# EAGLE library part NRF24L01 (library nrf24l01)
nRF24L01 Single chip 2.4GHz transceiver from Nordic Semiconductors.
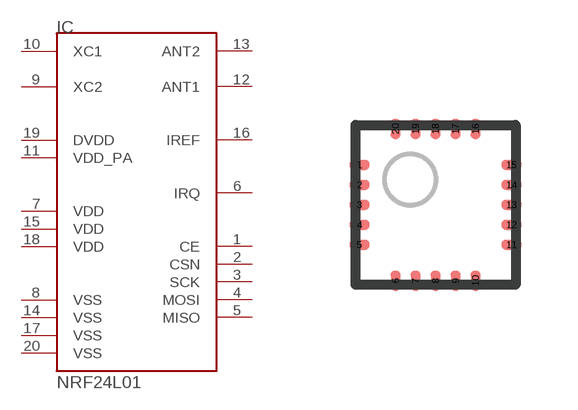
[diagram p0: symbol with the pads of QFN20; footprint QFN20]

Designator prefix IC

## NRF24L01  [QFN20]
1  CE  in
2  CSN  in
3  SCK  in
4  MOSI  in
5  MISO  out
6  IRQ  out
7  VDD  pwr
8  VSS  pwr
9  XC2  out
10  XC1  in
11  VDD_PA  sup
12  ANT1  pas
13  ANT2  pas
14  VSS  pwr
15  VDD  pwr
16  IREF  in
17  VSS  pwr
18  VDD  pwr
19  DVDD  sup
20  VSS  pwr

## Footprint QFN20 (pad centres in mm)
QFN20 4mm x 4mm package, with matt tin plating from Nordic Semiconductor.
smd 0.5 x 0.25: 1 -1.9,1; 2 -1.9,0.5; 3 -1.9,0; 4 -1.9,-0.5; 5 -1.9,-1; 11 1.9,-1; 12 1.9,-0.5; 13 1.9,0; 14 1.9,0.5; 15 1.9,1
smd 0.25 x 0.5: 6 -1,-1.9; 7 -0.5,-1.9; 8 0,-1.9; 9 0.5,-1.9; 10 1,-1.9; 16 1,1.9; 17 0.5,1.9; 18 0,1.9; 19 -0.5,1.9; 20 -1,1.9